# Altium integrated library LED Lighting - White.IntLib: 4 symbols
Pins are listed as number, name and electrical type; pins without a type are passive.

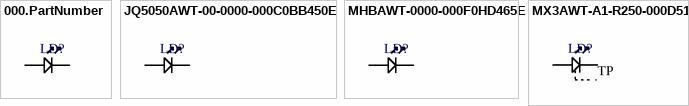
[diagram p0: symbols 000.PartNumber to MX3AWT-A1-R250-000D51]

## 000.PartNumber
designator LD?  (value not drawn)
Digikey Description; Manufacturer: *; Series: *; Package: *; Color: *; CCT (K): *; Flux @ 85°C, Current - Test: *; Flux @ 25°C, Current - Test: *; Current - Test: *; Voltage - Forward (Vf) (Typ): *; Lumens/Watt @ Current - Test: *; CRI (Color Rendering Index): *; Current - Max: *; Viewing Angle: *; Mounting Type: *; Package / Case: *; Supplier Device Package: *; Size / Dimension: *; Height - Seated (Max): *; Thermal Resistance of Package: *; Base Product Number: *; Ozdisan Link: *; Digikey Link: *; Farnell TR Link: *; Mouser Link: *
pins: 1 A+, 2 C-

## JQ5050AWT-00-0000-000C0BB450E
designator LD?  (value not drawn)
LED WHITE CRI 70 5000K JQ5050 9V; Manufacturer: Cree Inc.; Color: White, Cool; Flux @ 25°C, Current - Test: 580 lm (Typ); Current - Test: 400 mA; Voltage - Forward (Vf) (Typ): 9.5 V; Lumens/Watt @ Current - Test: 153 lm/W; CRI (Color Rendering Index): 70; Current - Max: 480 mA; Viewing Angle: 120°; Thermal Resistance of Package: 3°C/W; Series: J; Package: Tape & Reel (TR); CCT (K): 5000K; Flux @ 85°C, Current - Test: -; Mounting Type: Surface Mount; Package / Case: 2020 (5050 Metric); Supplier Device Package: SMD; Size / Dimension: 0.197" L x 0.197" W (5.00mm x 5.00mm); Height - Seated (Max): 0.035" (0.90mm); Base Product Number: -; Ozdisan Link: -; Digikey Link: https://www.digikey.com/en/products/detail/cree-inc/JQ5050AWT-00-0000-000C0BB450E/9974645?s=N4IgTCBcDaIFIEUCsAGVBBA6gFRAXQF8g; Farnell TR Link: https://tr.farnell.com/cree/jq5050awt-00-0000-000c0bb450e/led-hb-cool-white-5000k-565lm/dp/2853294; Mouser Link: https://eu.mouser.com/ProductDetail/Cree-LED/JQ5050AWT-00-0000-000C0BB450E?qs=r5DSvlrkXmJsIy0Ieri32Q==
footprint CREE_J-5050
pins: 1 A+, 2 C-

## MHBAWT-0000-000F0HD465E
designator LD?  (value not drawn)
LED XLAMP 6500K WHITE 18V SMD; Manufacturer: Cree Inc.; Color: White, Cool; CCT (K): 6500K 5-Step MacAdam Ellipse; Flux @ 85°C, Current - Test: 570lm (550lm ~ 590lm); Current - Test: 240 mA; Lumens/Watt @ Current - Test: 132 lm/W; CRI (Color Rendering Index): 80; Current - Max: 350 mA; Viewing Angle: 115°; Thermal Resistance of Package: 5.5°C/W; Base Product Number: MHBAWT; Series: Xlamp® MHB-A; Package: Tape & Reel (TR); Flux @ 25°C, Current - Test: -; Voltage - Forward (Vf) (Typ): 18 V; Mounting Type: Surface Mount; Package / Case: 2020 (5050 Metric); Supplier Device Package: -; Size / Dimension: 0.197" L x 0.197" W (5.00mm x 5.00mm); Height - Seated (Max): 0.063" (1.61mm); Ozdisan Link: https://ozdisan.com/led-ve-aydinlatma-cozumleri/led-komponentler/aydinlatma-ledleri-beyaz/MHBAWT-65E-D4-F0H-000A2; Digikey Link: https://www.digikey.com/en/products/detail/cree-inc/MHBAWT-0000-000F0HD465E/5807527; Farnell TR Link: https://tr.farnell.com/cree/mhbawt-0000-000n0bd265e/led-hb-cool-white-6500k-510lm/dp/2839011?ost=mhbawt-0000-000f0hd465e; Mouser Link: https://eu.mouser.com/ProductDetail/Cree-LED/MHBAWT-0000-000N0BD265E?qs=%2Fha2pyFaduj9ReGcjdM63pWPd6eW2%252B231Ekc4ROw5bMFXvVJ1W0Q3t5TLvLXX02g
footprint CREE_MHB-A-5050
pins: 1 A+, 2 C-

## MX3AWT-A1-R250-000D51
designator LD?  (value not drawn)
LED XLAMP COOL WHITE 6500K 2SMD; Manufacturer: Cree Inc.; Color: White, Cool; Flux @ 25°C, Current - Test: 111lm (107lm ~ 114lm); Current - Test: 350 mA; Voltage - Forward (Vf) (Typ): 3.7 V; Lumens/Watt @ Current - Test: 86 lm/W; CRI (Color Rendering Index): 75 (Typ); Current - Max: 500 mA; Viewing Angle: 120°; Thermal Resistance of Package: 11°C/W; Base Product Number: MX3AWT; Series: XLamp® MX-3; Package: Tape & Reel (TR); CCT (K): 6500K; Flux @ 85°C, Current - Test: -; Mounting Type: Surface Mount; Package / Case: 2-SMD, Gull Wing Exposed Pad; Supplier Device Package: SMD; Size / Dimension: 0.197" L x 0.197" W (5.00mm x 5.00mm); Height - Seated (Max): 0.058" (1.48mm); Ozdisan Link: -; Digikey Link: https://www.digikey.com/en/products/detail/cree-inc/MX3AWT-A1-R250-000D51/2356682?s=N4IgTCBcDaILIA0DMBBA6gFQLQoIxYCUwBWABi1MoBFjcQBdAXyA; Farnell TR Link: -; Mouser Link: https://www.mouser.com.tr/ProductDetail/Cree-LED/MX3AWT-A1-R250-000D51?qs=D3QG1iK7FqjMrzsoLgpxrw%3D%3D
footprint CREE_MX3AWT-5050
pins: 1 A+, 2 C-, TP